# Altium footprint library Motor.PcbLib: 2 footprints
Each footprint in its own frame and in the unit in brackets; x right, y up, seen from the top. Pads: shape width x height; smd on the part's side, far side on the other; paste and mask are expansions set on the pad; w line width, h text height; cw(c..) or ccw(c..) is an arc to the next point about the centre after c.
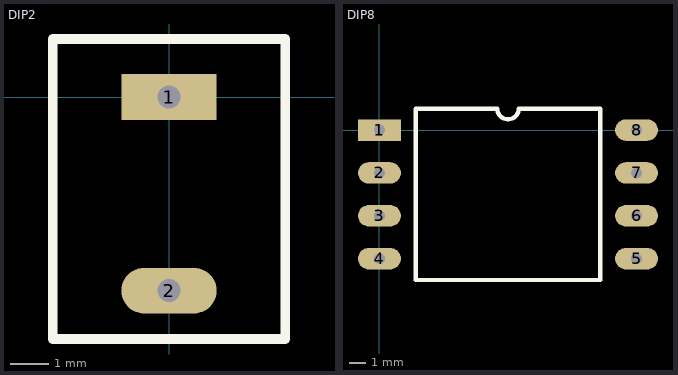
[diagram p0: the footprints below, top view; thin cyan lines are the x and y axes]

## DIP2 [mm]
pads (2):
  rect 2.5x1.2 hole 0.6: 1(0,0)
  oval 2.5x1.2 hole 0.6: 2(0,-5.08)
Top Overlay:
  lines w0.254: -3.048,-6.35 -3.048,1.524 3.048,1.524 3.048,-6.35 -3.048,-6.35

## DIP8 [mil]
height 157.48
pads (8):
  rect 100x50 hole 25: 1(0,0)
  oval 100x50 hole 25: 2(0,-100) 3(0,-200) 4(0,-300) 5(600,-300) 6(600,-200) 7(600,-100) 8(600,0)
Top Overlay:
  lines w10: 85,-350 85,50 275,50 ccw(c300,50) 325,50 515,50 515,-350 85,-350